# Altium schematic symbol library 2脚3215晶振.SCHLIB: 1 symbol
Pins are listed as number, name and electrical type; pins without a type are passive.

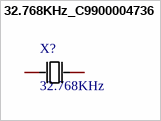
[diagram p0: symbol 32.768KHz_C9900004736]

## 32.768KHz_C9900004736
designator X?, comment 32.768KHz
Device: 32.768KHz_C9900004736; Add into BOM: yes; Symbol: 32.768KHZ; LCSC Part Name: 32.768KHz; Supplier Part: C9900004736; Manufacturer Part: 32.768KHz; Supplier Footprint: OSC-SMD_L3.2-W1.5; JLCPCB Part Class: 扩展库; Supplier: LCSC; Convert to PCB: yes; Name: 32.768KHz
footprint OSC-SMD_L3.2-W1.5
pins: 1 OSC1, 2 OSC2